# EAGLE library part 87832-06 (library con-molex)
Milli-Grid Header 2.00mm (.079") Pitch
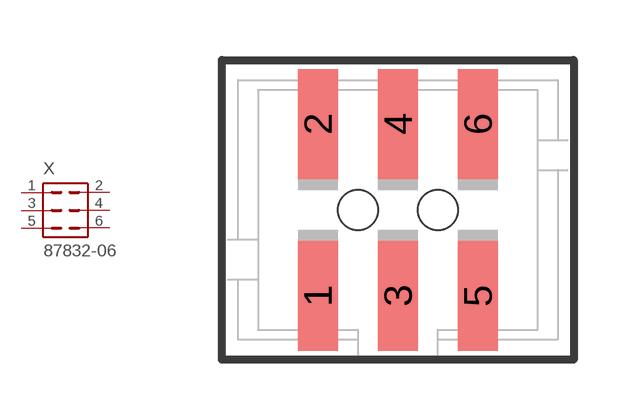
[diagram p95: symbol with the pads of 87832-06; footprint 87832-06]

Designator prefix X

## 87832-06 (MF: MOLEX; OC_FARNELL: 1756947; OC_NEWARK: unknown)  [87832-06]
1  1  pas
2  2  pas
3  3  pas
4  4  pas
5  5  pas
6  6  pas

## Footprint 87832-06 (pad centres in mm)
Milli-Grid™ Header, Surface Mount, Vertical, Shrouded, Lead-Free, 6 Circuits, 0.76µm Gold (Au) Plating, without Locking Window and Centre Polarization Slot, PCB Locator, Tube Datasheet <http://www.molex.com/pdm_docs/sd/878320621_sd.pdf>
smd 1 x 2.75: 1 -2,-2.15; 2 -2,2.15; 3 0,-2.15; 4 0,2.15; 5 2,-2.15; 6 2,2.15
hole 1 at -1,0
hole 1 at 1,0